# Altium schematic symbol library AD7999.Schlib: 1 symbol
Pins are listed as number, name and electrical type; pins without a type are passive.

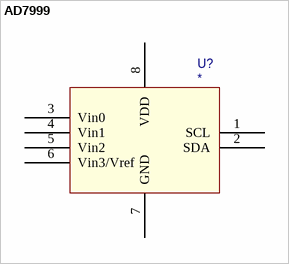
[diagram p0: symbol AD7999]

## AD7999
designator U?
pins: 1 SCL, 2 SDA, 3 Vin0, 4 Vin1, 5 Vin2, 6 Vin3/Vref, 7 GND, 8 VDD